# Altium schematic symbol library proconn-sd.SchLib: 1 symbol
Pins are listed as number, name and electrical type; pins without a type are passive.

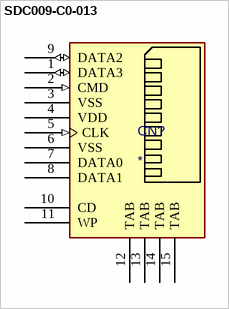
[diagram p0: symbol SDC009-C0-013]

## SDC009-C0-013
designator CN?
SD Card Connector (Short Type); Value: SDC009-C0-013; ExtraInfo: *; PN: *
footprint SDC009-XX-0X3
pins: 1 DATA3 (io), 2 CMD (in), 3 VSS (power), 4 VDD, 5 CLK (in), 6 VSS (power), 7 DATA0, 8 DATA1, 9 DATA2 (io), 10 CD, 11 WP, 12 TAB (power), 13 TAB (power), 14 TAB (power), 15 TAB (power)